# Altium schematic symbol library SCH - POWER - SWITCHMODE - DIODES AP3012.SCHLIB: 1 symbol
Pins are listed as number, name and electrical type; pins without a type are passive.

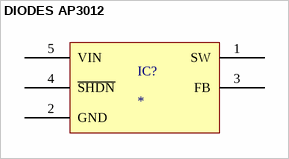
[diagram p0: symbol DIODES AP3012]

## DIODES AP3012
designator IC?
pins: 1 SW, 2 GND, 3 FB, 4 ~{SHDN}, 5 VIN